# Altium schematic symbol library ADA4530.Schlib: 1 symbol
Pins are listed as number, name and electrical type; pins without a type are passive.

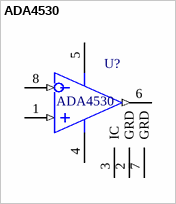
[diagram p0: symbol ADA4530]

## ADA4530
designator U?
Ultra-Low Bias Current Difet OpAmp; Назначение: Операционный усилитель; Наименование: ADA4530
footprint SOIC-8
pins: 1 IN+ (in), 2 GRD "Substrate", 3 IC, 4 V- (power), 5 V+ (power), 6 OUT (out), 7 GRD, 8 IN- (in)